# EAGLE library part HEADER08X01 (library custom)
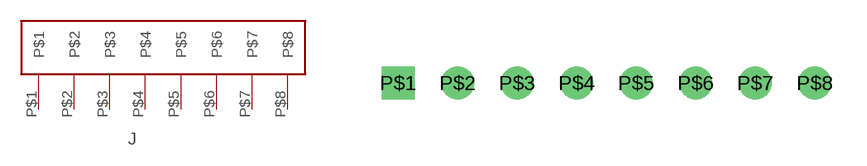
[diagram p22: symbol with the pads of HEADER08X01_.1; footprint HEADER08X01_.1]

Designator prefix J

## HEADER08X01  [HEADER08X01_.1]
P$1  P$1
P$2  P$2
P$3  P$3
P$4  P$4
P$5  P$5
P$6  P$6
P$7  P$7
P$8  P$8

## Footprint HEADER08X01_.1 (pad centres in mm)
drill 0.9 square: P$1 -8.89,0
drill 0.9 round: P$2 -6.35,0; P$3 -3.81,0; P$4 -1.27,0; P$5 1.27,0; P$6 3.81,0; P$7 6.35,0; P$8 8.89,0